# Altium footprint library Resistors.PcbLib: 157 footprints (part 5 of 10)
Each footprint in its own frame and in the unit in brackets; x right, y up, seen from the top. Pads: shape width x height; smd on the part's side, far side on the other; paste and mask are expansions set on the pad; w line width, h text height; cw(c..) or ccw(c..) is an arc to the next point about the centre after c.
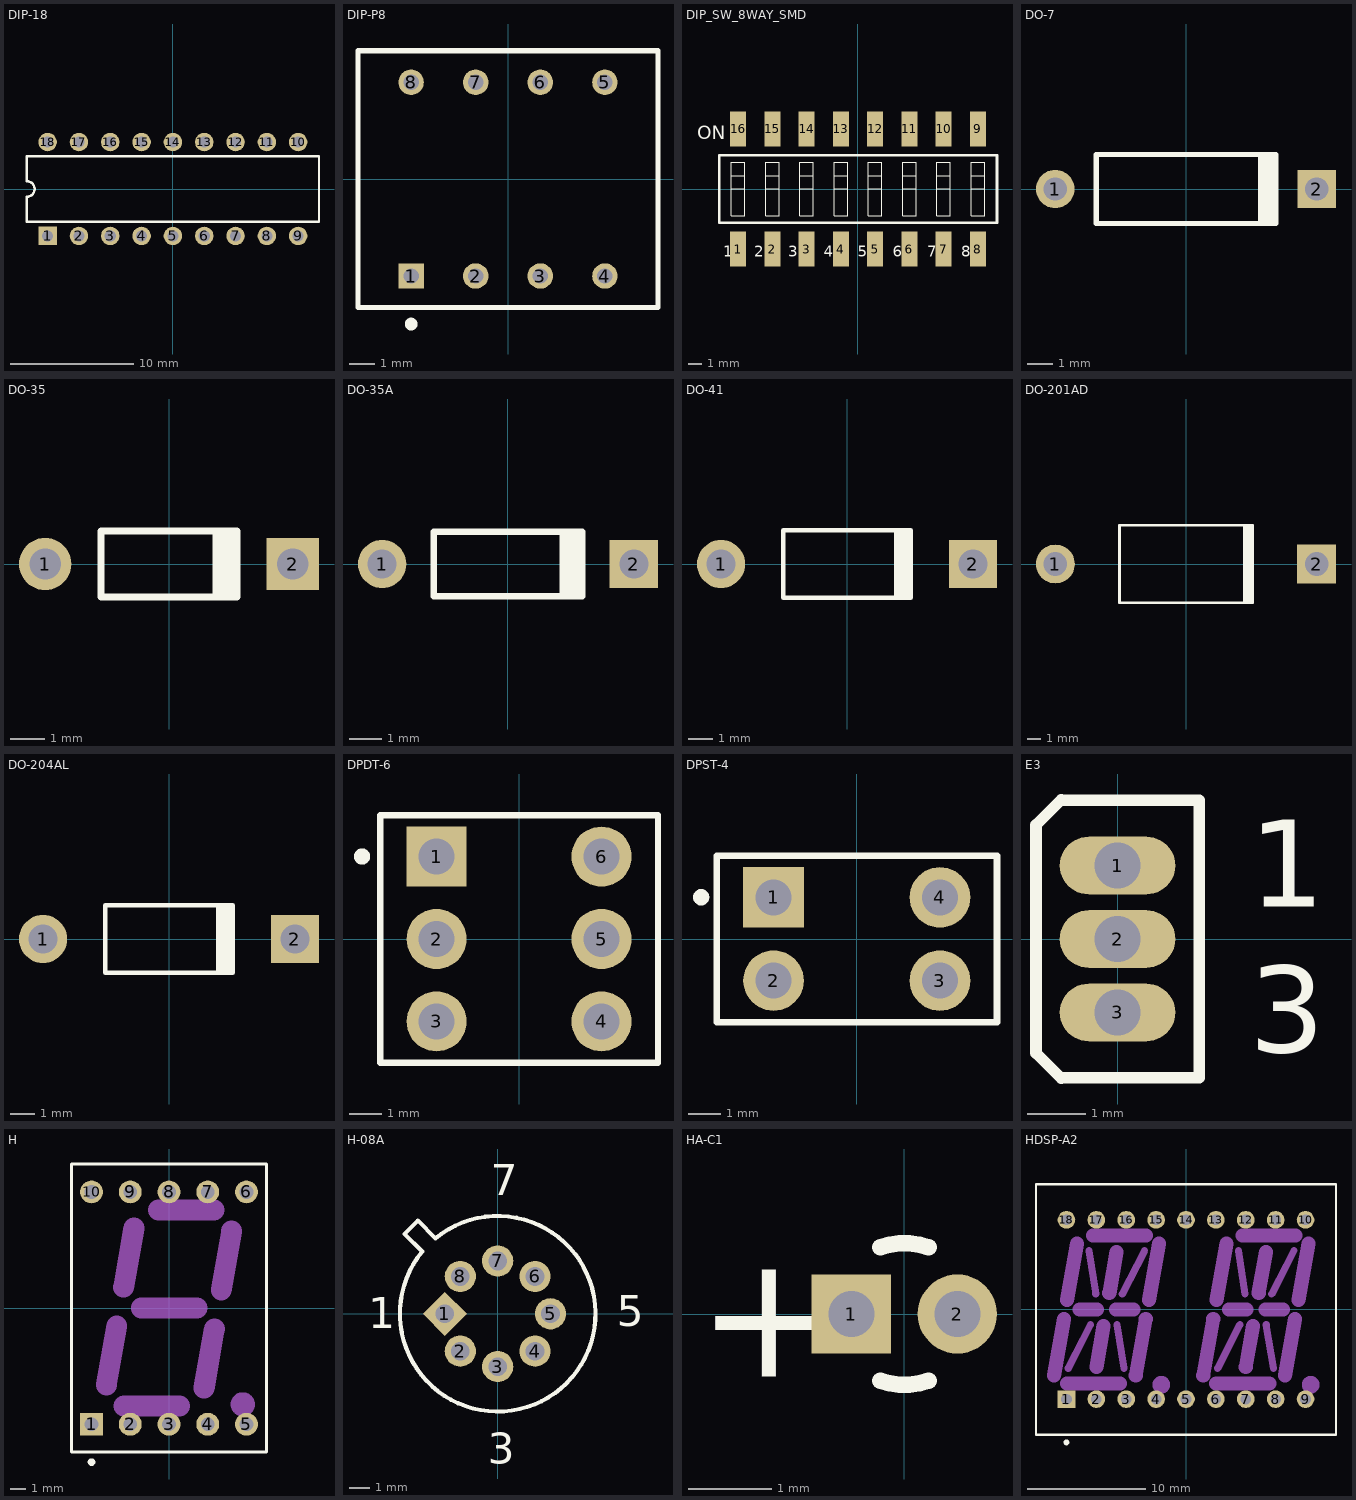
[diagram p4: the footprints below, top view; thin cyan lines are the x and y axes]

## DIP-18 [mm] "DIP; 18 Leads; Row Spacing 7.62 mm; Pitch 2.54 mm"
height 5.08
pads (18):
  rect 1.5x1.5 hole 0.9: 1(-10.16,-3.81)
  round 1.5 hole 0.9: 2(-7.62,-3.81) 3(-5.08,-3.81) 4(-2.54,-3.81) 5(0,-3.81) 6(2.54,-3.81) 7(5.08,-3.81) 8(7.62,-3.81) 9(10.16,-3.81) 10(10.16,3.81) 11(7.62,3.81) 12(5.08,3.81) 13(2.54,3.81) 14(0,3.81) 15(-2.54,3.81) 16(-5.08,3.81) 17(-7.62,3.81) 18(-10.16,3.81)
Top Overlay:
  lines w0.2: -11.85,-2.65 11.85,-2.65 11.85,2.65 -11.85,2.65 -11.85,0.635 cw(c-11.85,0) -11.85,-0.635 -11.85,-2.65

## DIP-P8 [mm] "Dual-Pole Dual-Throw Relay; 8 Leads"
pads (8):
  rect 1x1 hole 0.6: 1(-3.81,-3.81)
  round 1 hole 0.6: 2(-1.27,-3.81) 3(1.27,-3.81) 4(3.81,-3.81) 5(3.81,3.81) 6(1.27,3.81) 7(-1.27,3.81) 8(-3.81,3.81)
Top Overlay:
  circle w0.25: c-3.81,-5.7 r0.125
  lines w0.2: -5.9,-5.05 5.9,-5.05 5.9,5.05 -5.9,5.05 -5.9,-0.635 -5.9,-5.05

## DIP_SW_8WAY_SMD [mm] "DIP Switch; 16 Leads"
height 5.06
pads (16):
  rect 1.2x2.6 smd: 1(-8.89,-4.45) 2(-6.35,-4.45) 3(-3.81,-4.45) 4(-1.27,-4.45) 5(1.27,-4.45) 6(3.81,-4.45) 7(6.35,-4.45) 8(8.89,-4.45) 9(8.89,4.45) 10(6.35,4.45) 11(3.81,4.45) 12(1.27,4.45) 13(-1.27,4.45) 14(-3.81,4.45) 15(-6.35,4.45) 16(-8.89,4.45)
Top Overlay:
  lines w0.025: -9.39,0 -8.39,0 ; -9.39,1 -8.39,1 ; -6.85,0 -5.85,0 ; -6.85,1 -5.85,1 ; -4.31,0 -3.31,0 ; -4.31,1 -3.31,1 ; -1.77,0 -0.77,0 ; -1.77,1 -0.77,1 ; 0.77,0 1.77,0 ; 0.77,1 1.77,1 ; 3.31,0 4.31,0 ; 3.31,1 4.31,1 ; 5.85,0 6.85,0 ; 5.85,1 6.85,1 ; 8.39,0 9.39,0 ; 8.39,1 9.39,1 ; -9.39,-2 -8.39,-2 -8.39,2 -9.39,2 -9.39,-2 ; -6.85,-2 -5.85,-2 -5.85,2 -6.85,2 -6.85,-2 ; -4.31,-2 -3.31,-2 -3.31,2 -4.31,2 -4.31,-2 ; -1.77,-2 -0.77,-2 -0.77,2 -1.77,2 -1.77,-2 ; 0.77,-2 1.77,-2 1.77,2 0.77,2 0.77,-2 ; 3.31,-2 4.31,-2 4.31,2 3.31,2 3.31,-2 ; 5.85,-2 6.85,-2 6.85,2 5.85,2 5.85,-2 ; 8.39,-2 9.39,-2 9.39,2 8.39,2 8.39,-2
  lines w0.2: -10.29,-2.5 10.31,-2.5 10.31,2.5 -10.29,2.5 -10.29,-2.5
  text "8" at 7.659,-5.032 h0.8
  text "7" at 5.119,-5.032 h0.8
  text "ON" at -11.938,3.678 h1
  text "1" at -10.006,-5.032 h0.8
  text "2" at -7.681,-5.032 h0.8
  text "3" at -5.181,-5.032 h0.8
  text "4" at -2.556,-5.032 h0.8
  text "5" at -0.031,-5.032 h0.8
  text "6" at 2.569,-5.032 h0.8

## DO-7 [mm] "Diode, Axial; Body 7 x 2.7 mm (LxDia. max), Lead Dia. 0.53 mm (max)"
height 2.7
pads (2):
  round 1.5 hole 0.9: 1(-5.1,0)
  rect 1.5x1.5 hole 0.9: 2(5.1,0)
Top Overlay:
  rectangle: 2.8,-1.35 3.6,1.35
  lines w0.2: 3.5,-1.35 -3.5,-1.35 -3.5,1.35 3.5,1.35

## DO-35 [mm] "Diode, Axial; Body 3.8 x 1.9 mm (LxDia. max), Lead Dia. 0.53 mm (max)"
height 1.9
pads (2):
  round 1.5 hole 0.9: 1(-3.55,0)
  rect 1.5x1.5 hole 0.9: 2(3.55,0)
Top Overlay:
  rectangle: 1.25,-0.95 2.05,0.95
  lines w0.2: 1.95,-0.95 -1.95,-0.95 -1.95,0.95 1.95,0.95

## DO-35A [mm] "Diode, Axial; Body 4.6 x 1.9 mm (LxDia. max), Lead Dia. 0.53 mm (max)"
height 2
pads (2):
  round 1.5 hole 0.9: 1(-3.9,0)
  rect 1.5x1.5 hole 0.9: 2(3.9,0)
Top Overlay:
  rectangle: 1.6,-1 2.4,1
  lines w0.2: 2.3,-1 -2.3,-1 -2.3,1 2.3,1

## DO-41 [mm] "Diode, Axial; Body 5.2 x 2.7 mm (LxDia. max), Lead Dia. 0.86 mm (max)"
height 2.8
pads (2):
  round 2 hole 1.2: 1(-5.23,0)
  rect 2x2 hole 1.2: 2(5.23,0)
Top Overlay:
  rectangle: 1.95,-1.4 2.75,1.4
  lines w0.2: 2.65,-1.4 -2.65,-1.4 -2.65,1.4 2.65,1.4

## DO-201AD [mm] "Diode, Axial; Body 9.5 x 5.6 mm (LxDia. max), Lead Dia. 1.32 mm (max)"
height 5.6
pads (2):
  round 2.8 hole 1.7: 1(-9.42,0)
  rect 2.8x2.8 hole 1.7: 2(9.42,0)
Top Overlay:
  rectangle: 4.1,-2.8 4.9,2.8
  lines w0.2: 4.8,-2.8 -4.8,-2.8 -4.8,2.8 4.8,2.8

## DO-204AL [mm] "Diode, Axial; Body 5.2 x 2.7 mm (LxDia. max), Lead Dia. 0.86 mm (max)"
height 2.7
pads (2):
  round 2 hole 1.2: 1(-5.23,0)
  rect 2x2 hole 1.2: 2(5.23,0)
Top Overlay:
  rectangle: 1.95,-1.4 2.75,1.4
  lines w0.2: 2.65,-1.4 -2.65,-1.4 -2.65,1.4 2.65,1.4

## DPDT-6 [mm] "Double-Pole, Double-Throw Switch; 6 Leads"
pads (6):
  rect 1.85x1.85 hole 1.1: 1(-2.54,2.54)
  round 1.85 hole 1.1: 2(-2.54,0) 3(-2.54,-2.54) 4(2.54,-2.54) 5(2.54,0) 6(2.54,2.54)
Top Overlay:
  circle w0.25: c-4.836,2.541 r0.125
  lines w0.2: -4.28,-3.81 4.28,-3.81 4.28,3.81 -4.28,3.81 -4.28,-3.81

## DPST-4 [mm] "Double-Pole, Single-Throw Switch; 4 Leads"
pads (4):
  rect 1.85x1.85 hole 1.1: 1(-2.54,1.27)
  round 1.85 hole 1.1: 2(-2.54,-1.27) 3(2.54,-1.27) 4(2.54,1.27)
Top Overlay:
  circle w0.25: c-4.751,1.274 r0.125
  lines w0.2: -4.28,-2.54 4.28,-2.54 4.28,2.54 -4.28,2.54 -4.28,-2.54

## E3 [mm] "TO, Flat Index; 3 In-Line, Axial Leads; Body Dia. 4.6mm; Lead Dia. 0.5 mm (max)"
height 4.01
pads (3):
  oval 2x1 hole 0.8: 1(0,1.27) 2(0,0) 3(0,-1.27)
Top Overlay:
  lines w0.2: -0.97,-2.41 -1.41,-1.97 -1.41,1.97 -0.97,2.41 ; -0.97,-2.4 1.41,-2.4 1.41,2.4 -0.97,2.4
  text "3" at 2.275,-1.963 h1.5
  text "1" at 2.275,0.555 h1.5

## H [mm] "LED, 7-Segment Display, 14.2 mm, RHD; 10 Leads; Row Space 15.24 mm; Pitch 2.54 mm"
height 8.25
pads (10):
  rect 1.5x1.5 hole 0.9: 1(-5.08,-7.62)
  round 1.5 hole 0.9: 2(-2.54,-7.62) 3(0,-7.62) 4(2.54,-7.62) 5(5.08,-7.62) 6(5.08,7.62) 7(2.54,7.62) 8(0,7.62) 9(-2.54,7.62) 10(-5.08,7.62)
Top Overlay:
  circle w0.25: c-5.08,-10.1 r0.125
  lines w0.2: -6.4,-9.45 -6.4,9.45 6.4,9.45 6.4,-9.45 -6.4,-9.45
Mechanical 1:
  circle w1: c4.842,-6.316 r0.296
  lines w1.37: -4.108,-5.054 -3.425,-1.17 ; -2.974,1.368 -2.293,5.255 ; -2.958,-6.429 0.692,-6.426 ; -1.821,0 1.828,0 ; -0.689,6.425 2.96,6.425 ; 2.295,-5.256 2.98,-1.371 ; 3.427,1.169 4.11,5.058

## H-08A [mm] "Can; 8 Leads; Pin Circle Dia. 5.08 mm (TO-99)"
height 5.72
pads (8):
  rect 1.5x1.5 hole 0.9 rot 45: 1(-2.54,0)
  round 1.5 hole 0.9: 2(-1.796,-1.796) 3(0,-2.54) 4(1.796,-1.796) 5(2.54,0) 6(1.796,1.796) 7(0,2.54) 8(-1.796,1.796)
Top Overlay:
  lines w0.2: -4.475,3.838 -3.626,2.99 ccw(c0,0) -2.99,3.626 -3.838,4.475 -4.475,3.838
  text "7" at -0.332,5.7 h1.5
  text "5" at 5.712,-0.589 h1.5
  text "3" at -0.469,-7.22 h1.5
  text "1" at -6.22,-0.696 h1.5

## HA-C1 [mm] "Capacitor, Radial, Tantalum; Body 1.7 x 2.8 mm (Dia.xH max); Pin Spacing 1.27 mm (typ)"
pads (2):
  rect 0.95x0.95 hole 0.55: 1(-0.635,0)
  round 0.95 hole 0.55: 2(0.635,0)
Top Overlay:
  lines w0.2: -0.291,-0.799 ccw(c0,0) 0.291,-0.799 ; -0.291,0.799 cw(c0,0) 0.291,0.799
  text "+" at -2.485,-0.75 h1.5

## HDSP-A2 [mm] "LED, Alphanumeric Display, 13.8 mm, Dual Character; 18 Leads; Row Space 15.24 mm; Pitch 2.54 mm"
height 7.27
pads (18):
  rect 1.5x1.5 hole 0.9: 1(-10.16,-7.62)
  round 1.5 hole 0.9: 2(-7.62,-7.62) 3(-5.08,-7.62) 4(-2.54,-7.62) 5(0,-7.62) 6(2.54,-7.62) 7(5.08,-7.62) 8(7.62,-7.62) 9(10.16,-7.62) 10(10.16,7.62) 11(7.62,7.62) 12(5.08,7.62) 13(2.54,7.62) 14(0,7.62) 15(-2.54,7.62) 16(-5.08,7.62) 17(-7.62,7.62) 18(-10.16,7.62)
Top Overlay:
  circle w0.25: c-10.16,-11.3 r0.125
  lines w0.2: -12.75,-10.65 12.75,-10.65 12.75,10.65 -12.75,10.65 -12.75,-10.65
Mechanical 1:
  circle w1.2: c-2.1,-6.4 r0.15
  circle w1.2: c10.6,-6.4 r0.15
  lines w0.6: -10.01,-5 -8.12,-1.3 ; -8.25,5 -7.67,1.3 ; -5.88,-1.3 -5.28,-5 ; -5.42,1.3 -3.52,5 ; 2.69,-5 4.58,-1.3 ; 4.45,5 5.03,1.3 ; 6.82,-1.3 7.42,-5 ; 7.28,1.3 9.18,5
  lines w1.2: -11.23,-5.6 -10.38,-0.8 ; -10.13,-6.3 -5.62,-6.3 ; -10.1,0.8 -9.26,5.58 ; -9.035,0 -7.58,0 ; -7.9,6.3 -3.39,6.3 ; -7.62,-4.89 -7.01,-1.4 ; -6.52,1.41 -5.91,4.89 ; -5.96,0 -4.465,0 ; -4.27,-5.6 -3.42,-0.8 ; -3.13,0.81 -2.3,5.59 ; 1.47,-5.6 2.32,-0.8 ; 2.57,-6.3 7.08,-6.3 ; 2.6,0.8 3.44,5.58 ; 3.665,0 5.14,0 ; 4.8,6.3 9.31,6.3 ; 5.08,-4.89 5.69,-1.4 ; 6.18,1.41 6.79,4.89 ; 6.76,0 8.235,0 ; 8.43,-5.6 9.28,-0.8 ; 9.57,0.81 10.4,5.59